# Altium schematic symbol library Altavoz.SchLib: 1 symbol
Pins are listed as number, name and electrical type; pins without a type are passive.

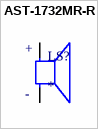
[diagram p0: symbol AST-1732MR-R]

## AST-1732MR-R
designator LS?
æ‰¬å£°å™¨.2W 32æ¬§å§†90DBA 1700HZ; MF: PUI Audio; MP: AST-1732MR-R; Purchase-URL: https://pricing.snapeda.com/search/part/AST-1732MR-R/?ref=eda; Check_prices: https://www.snapeda.com/parts/AST-1732MR-R/PUI+Audio/view-part/?ref=eda; Value: *; Package: None; Price: None; Availability: In Stock; SnapEDA_Link: https://www.snapeda.com/parts/AST-1732MR-R/PUI+Audio/view-part/?ref=snap
footprint SPKR_AST-1732MR-R
pins: 1 POS, 2 NEG
text: +; -